# EAGLE library part TRANSFORMER:2P2S (library QuantumOptics)
Transformer, dual primary and dual secondary
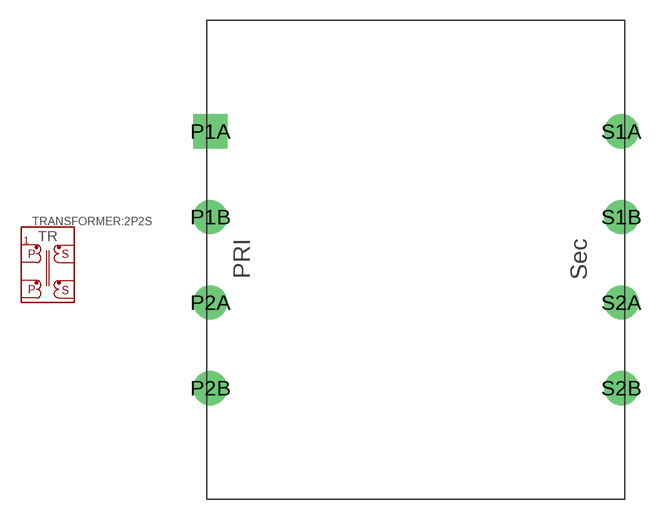
[diagram p140: symbol with the pads of TRANSFORMER:TAMURA_3FD-3; footprint TRANSFORMER:TAMURA_3FD-3]

Designator prefix TR

## TRANSFORMER:2P2S-TAMURA_3FD-3  [TRANSFORMER:TAMURA_3FD-3]
P1A  P1A
P1B  P1B
P2A  P2A
P2B  P2B
S1A  S1A
S1B  S1B
S2A  S2A
S2B  S2B

## Footprint TRANSFORMER:TAMURA_3FD-3 (pad centres in mm)
Transformer, dual primary and dual secondary, Tamura 3FD-3xx (dual pri) or 3FS-3xx (single pri), http://www.tamuracorp.com/clientuploads/pdfs/engineeringdocs/3FD-3XX.pdf
drill 1.321 pad 2.54 square: P1A -15.24,9.525
drill 1.321 pad 2.54: P1B -15.24,3.175; P2A -15.24,-3.175; P2B -15.24,-9.525; S1A 15.24,9.525; S1B 15.24,3.175; S2A 15.24,-3.175; S2B 15.24,-9.525